# Altium schematic symbol library 0.3 - LED发光二极管.SchLib: 19 symbols
Pins are listed as number, name and electrical type; pins without a type are passive.

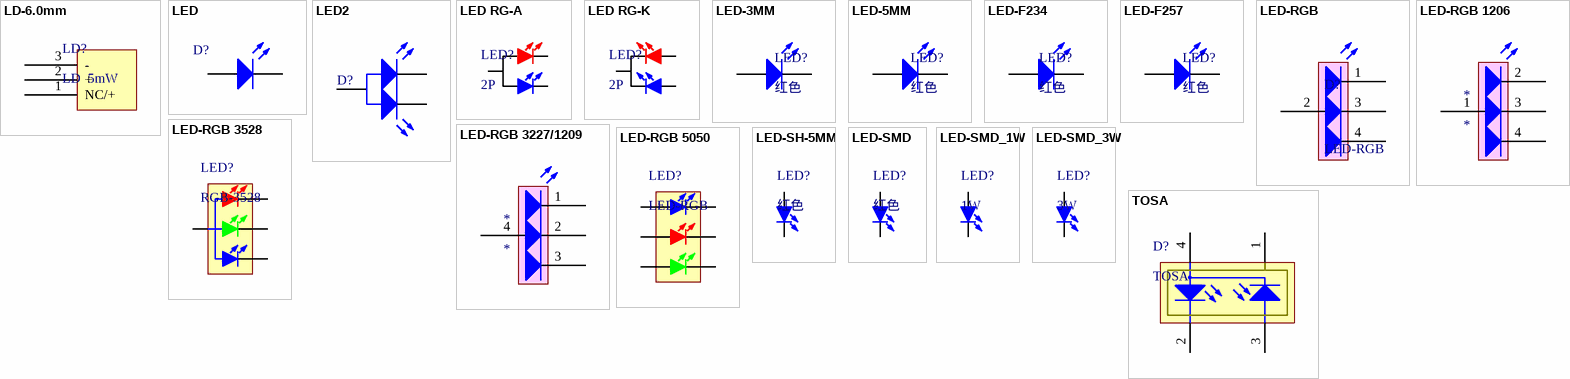
[diagram p0: symbols LD-6.0mm to TOSA]

## LD-6.0mm
designator LD?, comment LD  5mW
5MW激光; 技术支持，联系售后: https://shop463601444.taobao.com
footprint LD-6.0 (激光直径6.0mm)
pins: 1 NC/+ (power), 2 + (power), 3 - (power)

## LED
designator D?  (value not drawn)
发光二极管; 技术支持，联系售后: https://shop463601444.taobao.com
footprint LED_A1 (直径3MM发?)
footprint LED_A2 (直径3MM?)
footprint LED 3MM-B (蓝色3mm直插LED                                 淘宝ID:黄晶宝石)
footprint LED 3MM-G (绿色3mm直插LED                                 淘宝ID:黄晶宝石)
footprint LED 3MM-R (红色3mm直插LED                                   淘宝ID:黄晶宝石)
footprint LED 3MM-W (白色3mm直插LED                             淘宝ID:黄晶宝石)
footprint LED 3MM-Y (黄色3mm直插LED      淘宝ID:黄晶宝石)
pins: 1 A, 2 K

## LED2
designator D?  (value not drawn)
双色LED; 技术支持，联系售后: 其他店铺购入均为盗版，不享受售后技术支持服务，请立即申请退款
footprint LED_A3 (直径3MM二极管)
pins: 1 K1, 2 A, 3 K2

## LED RG-A
designator LED?, comment 2P
共阳双色LED; 版权归属: 封装库来自淘宝 ID：黄晶宝石; 技术支持，联系售后: 其他https://shop463601444.taobao.com; BOM名称: 共阳双色LED; 联系售后: https://shop463601444.taobao.com
footprint LED 3mm-2P (3mm双色LED)
pins: 1, 2, 3

## LED RG-K
designator LED?, comment 2P
共阴双色LED; 版权归属: 封装库来自淘宝 ID：黄晶宝石; BOM名称: 共阴双色LED; 学习资源: https://shop463601444.taobao.com
footprint LED 3mm-2P (3mm双色LED)
pins: 1, 2, 3

## LED-3MM
designator LED?, comment 红色
直插3mm LED; BOM名称: 插件LED; 版权归属: 封装库来自淘宝 ID：黄晶宝石; 联系售后: https://shop463601444.taobao.com
footprint LED 3MM-B (蓝色3mm直插LED)
footprint LED 3MM-G (绿色3mm直插LED)
footprint LED 3MM-R (红色3mm直插LED)
footprint LED 3MM-Y (黄色3mm直插LED)
footprint LED 3MM-YC (橙色3mm直插LED)
footprint LED 3MM-W (白色3mm直插LED)
pins: 1 A, 2 K

## LED-5MM
designator LED?, comment 红色
直插5mm LED; BOM名称: 5mm插件LED; 版权归属: 封装库来自淘宝 ID：黄晶宝石; 学习资源: https://shop463601444.taobao.com
footprint LED 5MM-B (蓝色5mm直插LED)
footprint LED 5MM-G (绿色5mm直插LED)
footprint LED 5MM-R (红色5mm直插LED)
footprint LED 5MM-Y (黄色5mm直插LED)
footprint LED 5MM-W (白色5mm直插LED)
footprint LED 5MM-YC (橙色5mm直插LED)
pins: 1 A, 2 K

## LED-F234
designator LED?, comment 红色
234方形LED; BOM名称: 方形LED; 版权归属: 封装库来自淘宝 ID：黄晶宝石; 学习资源: https://shop463601444.taobao.com
footprint LED F234-W (透明色2mm*3mm*4mm(长*宽*高))
footprint LED F234-R (红色2mm*3mm*4mm(长*宽*高))
footprint LED F234-G (绿色2mm*3mm*4mm(长*宽*高))
footprint LED F234-B (蓝色2mm*3mm*4mm(长*宽*高))
footprint LED F234-Y (黄色2mm*3mm*4mm(长*宽*高))
pins: 1 A, 2 K

## LED-F257
designator LED?, comment 红色
257方形LED; BOM名称: 方形LED; 版权归属: 封装库来自淘宝 ID：黄晶宝石; 学习资源: https://shop463601444.taobao.com
footprint LED F257-W (透明色2mm*5mm*7mm(长*宽*高))
footprint LED F257-R (红色2mm*5mm*7mm(长*宽*高))
footprint LED F257-G (绿色2mm*5mm*7mm(长*宽*高))
footprint LED F257-B (蓝色2mm*5mm*7mm(长*宽*高))
footprint LED F257-Y (黄色2mm*5mm*7mm(长*宽*高))
pins: 1 A, 2 K

## LED-RGB
designator D?
直插三基色LED; Published: 8-Jun-2000; LatestRevisionDate: 08-Jul-2005; LatestRevisionNote: Mech Layer 1 removed.; PackageReference: LED-0; Publisher: Altium Limited
footprint LED-RGB
pins: 1 R, 2 A, 3 G, 4 B

## LED-RGB 1206
designator *
1206三基色LED; 技术支持，联系售后: 封装库来自淘宝卖家 ID：黄晶宝石
footprint SMD_1206-4P-L3.2-W1.3 (Footprint not found)
pins: 1 A, 2 R, 3 G, 4 B

## LED-RGB 3227/1209
designator *
3227/1209三基色LED; 技术支持，联系售后: https://shop463601444.taobao.com
footprint LED-SMD_4PIN-L3.20-W2.70 (Footprint not found)
pins: 1 R, 2 G, 3 B, 4 A

## LED-RGB 3528
designator LED?, comment RGB-3528
3528三基色LED; BOM名称: 三基色LED; 版权归属: 封装库来自淘宝 ID：黄晶宝石; 封装库来自淘宝卖家 ID：黄晶宝石: 其他店铺购入均为盗版，不享受售后技术支持服务，请立即申请退款; 学习资源: https://shop463601444.taobao.com
footprint LED 3528-4Pin (4脚，3528LED)
pins: 1 RED_K, 2 GREEN_K, 3 BULE_K, 4 A

## LED-RGB 5050
designator LED?, comment LED-RGB
5050三基色LED; BOM名称: 三基色LED; 版权归属: 封装库来自淘宝 ID：黄晶宝石; 学习资源: https://shop463601444.taobao.com
footprint LED 5050 (白色5050LED)
pins: 1 BULE_A, 2 RED_A, 3 GREEN_A, 4 GREEN_K, 5 RED_K, 6 BULE_K

## LED-SH-5MM
designator LED?, comment 红色
5mm草帽LED; 版权归属: 封装库来自淘宝 ID：黄晶宝石; BOM名称: 5mm草帽LED; 学习资源: https://shop463601444.taobao.com
footprint LED SH-5MM-W (白色5mm草帽，直插LED)
pins: 1 A, 2 K

## LED-SMD
designator LED?, comment 红色
贴片LED; 版权归属: 封装库来自淘宝 ID：黄晶宝石; BOM名称: 贴片LED; 学习资源: https://shop463601444.taobao.com
footprint LED 0603W (白色0603LED)
footprint LED 0603R (红色0603LED)
footprint LED 0603B (蓝色0603LED)
footprint LED 0603G (绿色0603LED)
footprint LED 0603Y (黄色0603LED)
footprint LED 0805G (绿色0805LED)
footprint LED 0805R (红色0805LED)
footprint LED 0805B (蓝色0805LED)
footprint LED 0805Y (黄色0805LED)
footprint LED 3528-2Pin (2脚，3528LED)
footprint LED 1206G (绿色1206LED)
footprint LED 5730-V (紫色5730LED)
footprint LED 1206Y (黄色1206LED)
footprint LED 0805W (白色0805LED)
footprint LED 1206B (蓝色1206LED)
footprint LED 1206W (白色1206LED)
footprint LED 1206R (红色1206LED)
pins: 1 A, 2 K

## LED-SMD_1W
designator LED?, comment 1W
1W大功率LED; BOM名称: 大功率LED; 版权归属: 封装库来自淘宝 ID：黄晶宝石; 学习资源: https://shop463601444.taobao.com
footprint LED 1W/3W-W (白色，大功率LED)
footprint LED 1W/3W (大功率LED)
pins: 1 A, 2 K

## LED-SMD_3W
designator LED?, comment 3W
5W大功率LED; BOM名称: 大功率LED; 版权归属: 封装库来自淘宝 ID：黄晶宝石; 学习资源: https://shop463601444.taobao.com
footprint LED 1W/3W-W (白色，大功率LED)
footprint LED 1W/3W (大功率LED)
pins: 1 A, 2 K

## TOSA
designator D?
激光器; 封装库来自淘宝卖家 ID：黄晶宝石: 其他店铺购入均为盗版，不享受售后技术支持服务，请立即申请退款
footprint LD-4P
pins: 1 GND, 2 LD-, 3 PD, 4 PW